# EAGLE library part RECEPTACLE_20_0.4_5024262030 (library Molex_2)
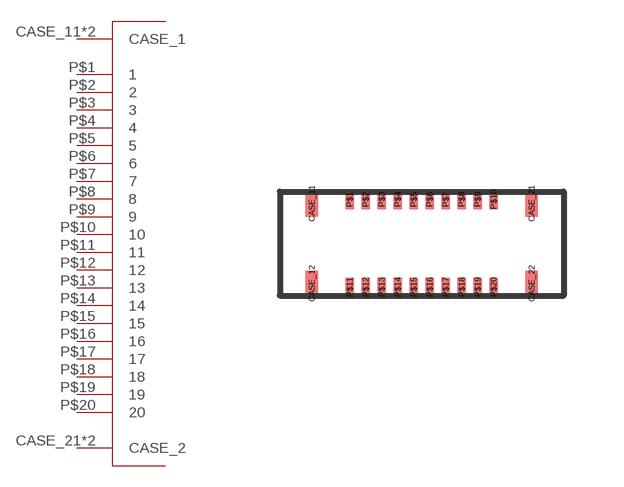
[diagram p0: symbol with the pads of RECEPTACLE_20_0.4_5024262030; footprint RECEPTACLE_20_0.4_5024262030]

Designator prefix -

## RECEPTACLE_20_0.4_5024262030  [RECEPTACLE_20_0.4_5024262030]
CASE_11  CASE_1
CASE_12  CASE_1
CASE_21  CASE_2
CASE_22  CASE_2
P$1  1
P$2  2
P$3  3
P$4  4
P$5  5
P$6  6
P$7  7
P$8  8
P$9  9
P$10  10
P$11  11
P$12  12
P$13  13
P$14  14
P$15  15
P$16  16
P$17  17
P$18  18
P$19  19
P$20  20

## Footprint RECEPTACLE_20_0.4_5024262030 (pad centres in mm)
smd 0.32 x 0.65: CASE_11 -0.95,-0.1; CASE_12 -0.95,-2.1; CASE_21 4.55,-0.1; CASE_22 4.55,-2.1
smd 0.22 x 0.475: P$1 0,0; P$2 0.4,0; P$3 0.8,0; P$4 1.2,0; P$5 1.6,0; P$6 2,0; P$7 2.4,0; P$8 2.8,0; P$9 3.2,0; P$10 3.6,0; P$11 0,-2.19; P$12 0.4,-2.19; P$13 0.8,-2.19; P$14 1.2,-2.19; P$15 1.6,-2.19; P$16 2,-2.19; P$17 2.4,-2.19; P$18 2.8,-2.19; P$19 3.2,-2.19; P$20 3.6,-2.19